# Altium integrated library BlackPill_AT32F403ACxU_Library.IntLib: 1 symbol
Pins are listed as number, name and electrical type; pins without a type are passive.

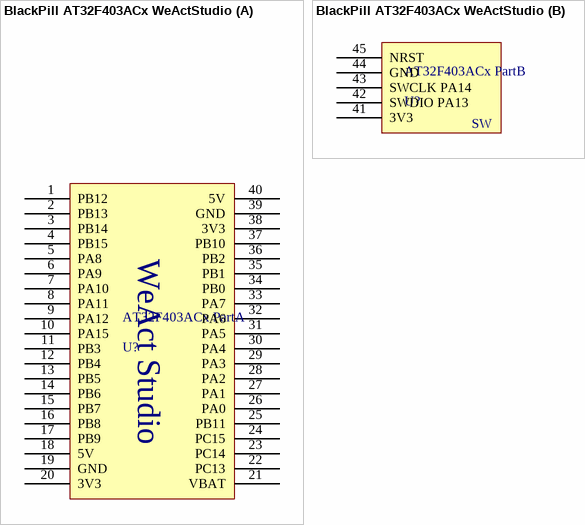
[diagram p0: symbol BlackPill AT32F403ACx WeActStudio]

## BlackPill AT32F403ACx WeActStudio
designator AT32F403ACx Part, comment U?
BlackPill AT32F403ACx WeActStudio; ComponentLink1Description: WeAct Studio; ComponentLink1URL: WeAct-TC.cn; ComponentLink2Description: MiniF4-STM32F4x1 Github; ComponentLink2URL: https://github.com/WeActTC/MiniF4-STM32F4x1; ComponentLink3Description: MiniF4-STM32F4x1 Gitee; ComponentLink3URL: https://gitee.com/WeAct-TC/MiniF4-STM32F4x1
footprint BlackPill AT32F403ACx WeActStudio
part A pins: 1 PB12, 2 PB13, 3 PB14, 4 PB15, 5 PA8, 6 PA9, 7 PA10, 8 PA11, 9 PA12, 10 PA15, 11 PB3, 12 PB4, 13 PB5, 14 PB6, 15 PB7, 16 PB8, 17 PB9, 18 5V, 19 GND, 20 3V3, 21 VBAT, 22 PC13, 23 PC14, 24 PC15, 25 PB11, 26 PA0, 27 PA1, 28 PA2, 29 PA3, 30 PA4, 31 PA5, 32 PA6, 33 PA7, 34 PB0, 35 PB1, 36 PB2, 37 PB10, 38 3V3, 39 GND, 40 5V
part B pins: 41 3V3, 42 SWDIO PA13, 43 SWCLK PA14, 44 GND, 45 NRST
part B text: SW